# Altium schematic symbol library SIT8209.SchLib: 1 symbol
Pins are listed as number, name and electrical type; pins without a type are passive.

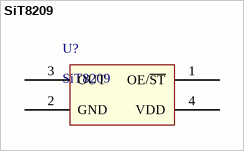
[diagram p0: symbol SiT8209]

## SiT8209
designator U?
pins: 1 OE/~{ST}, 2 GND, 3 OUT, 4 VDD